# Altium schematic symbol library lattice-fpga.SchLib: 4 symbols
Pins are listed as number, name and electrical type; pins without a type are passive.

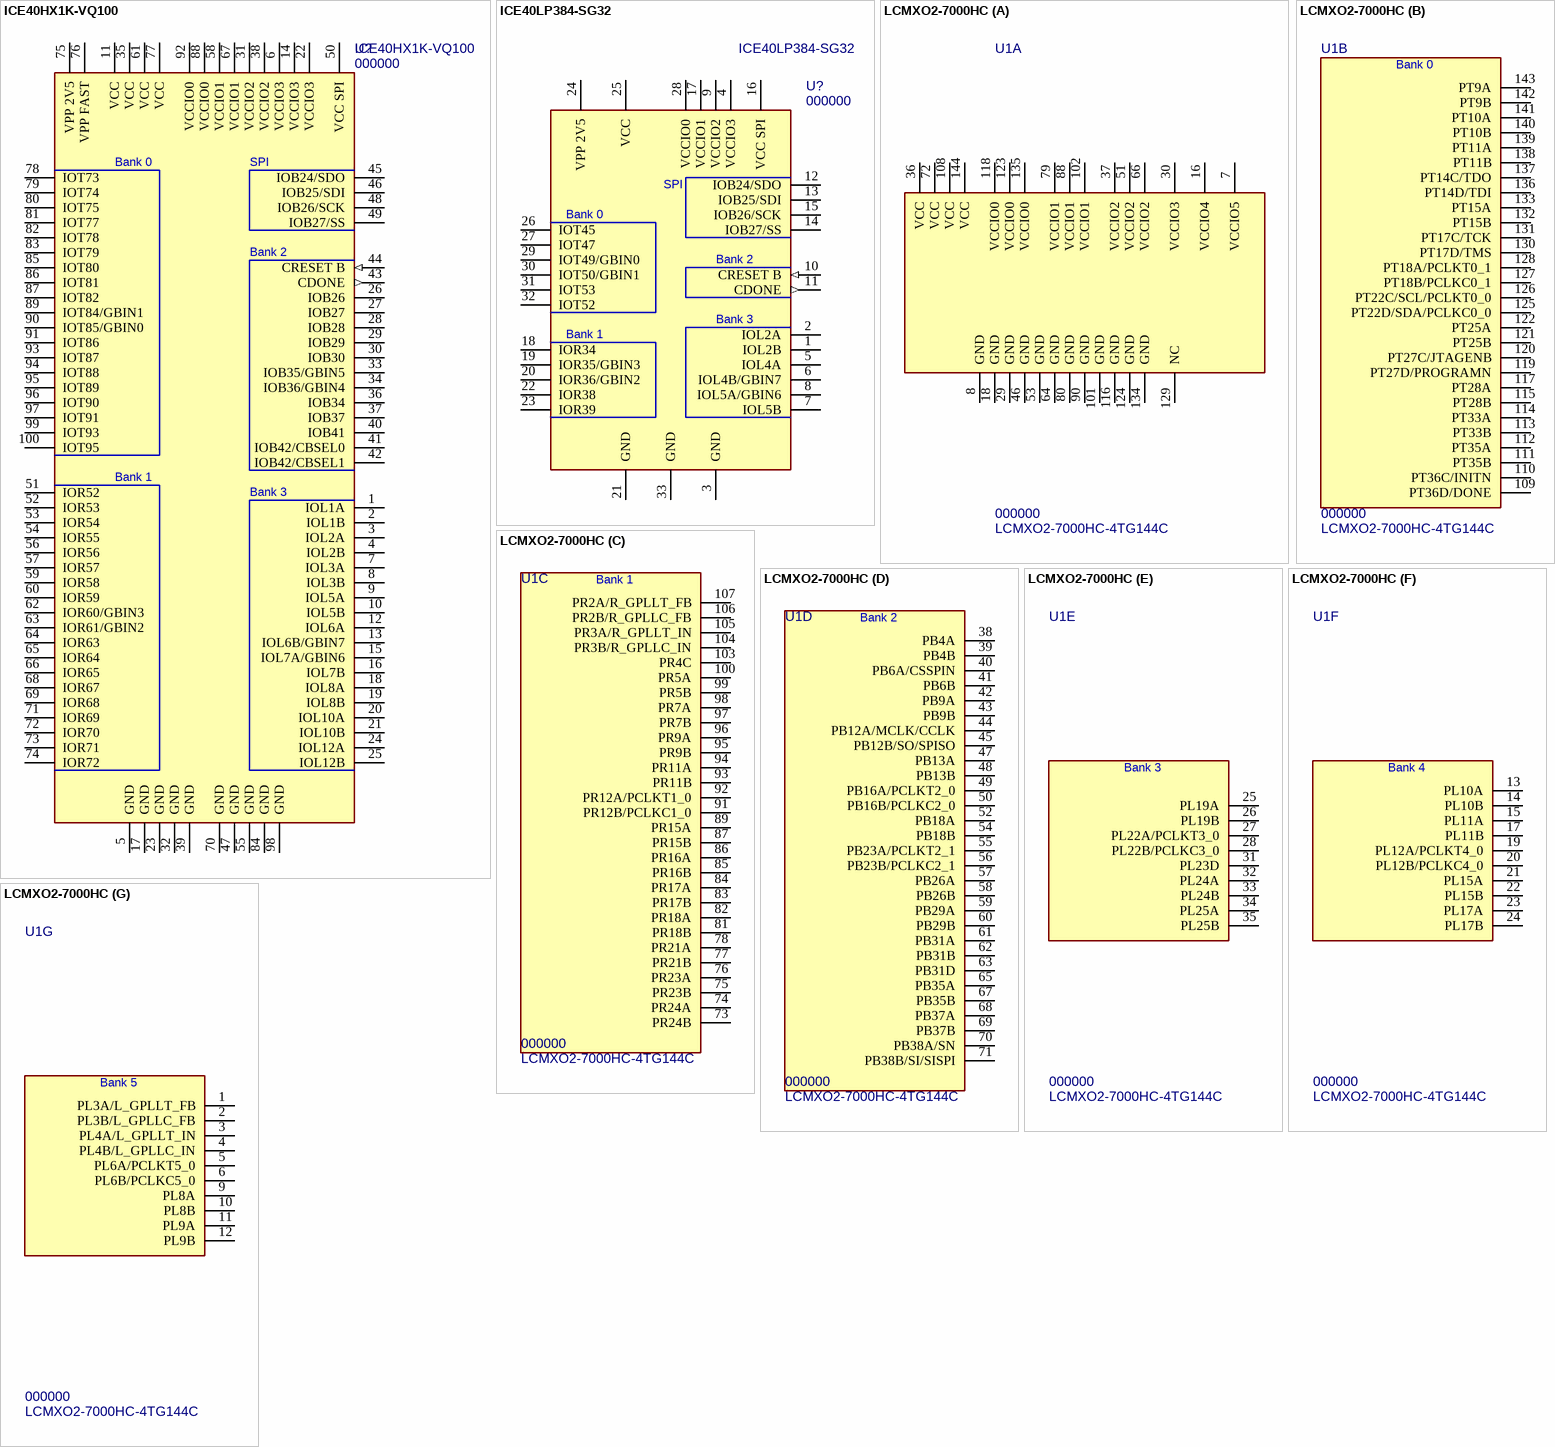
[diagram p0: symbols ICE40HX1K-VQ100 to LCMXO2-7000HC]

## ICE40HX1K-VQ100
designator U?, comment 000000  value ICE40HX1K-VQ100
FPGA, 1280 Logic Elements, OTP; MF: Lattice; Digy-Key PN: 220-1567-ND; PN: 000000; Package: 100-LQFP; ExtraInfo: *; MF PN: ICE40HX1K-VQ100
footprint 100-VQFP-M (TSQFP, 100-Leads, Body 16.2x16.2mm (max), Pitch 0.50mm, IPC High Density)
pins: 1 IOL1A, 2 IOL1B, 3 IOL2A, 4 IOL2B, 5 GND (power), 6 VCCIO3, 7 IOL3A, 8 IOL3B, 9 IOL5A, 10 IOL5B, 11 VCC (power), 12 IOL6A, 13 IOL6B/GBIN7, 14 VCCIO3, 15 IOL7A/GBIN6, 16 IOL7B, 17 GND, 18 IOL8A, 19 IOL8B, 20 IOL10A, 21 IOL10B, 22 VCCIO3, 23 GND, 24 IOL12A, 25 IOL12B, 26 IOB26, 27 IOB27, 28 IOB28, 29 IOB29, 30 IOB30, 31 VCCIO2 (power), 32 GND (power), 33 IOB35/GBIN5, 34 IOB36/GBIN4, 35 VCC (power), 36 IOB34, 37 IOB37, 38 VCCIO2 (power), 39 GND (power), 40 IOB41, 41 IOB42/CBSEL0, 42 IOB42/CBSEL1, 43 CDONE (out), 44 CRESET B (in), 45 IOB24/SDO, 46 IOB25/SDI, 47 GND (power), 48 IOB26/SCK, 49 IOB27/SS, 50 VCC SPI, 51 IOR52, 52 IOR53, 53 IOR54, 54 IOR55, 55 GND (power), 56 IOR56, 57 IOR57, 58 VCCIO1 (power), 59 IOR58, 60 IOR59, 61 VCC (power), 62 IOR60/GBIN3, 63 IOR61/GBIN2, 64 IOR63, 65 IOR64, 66 IOR65, 67 VCCIO1 (power), 68 IOR67, 69 IOR68, 70 GND, 71 IOR69, 72 IOR70, 73 IOR71, 74 IOR72, 75 VPP 2V5 (power), 76 VPP FAST (power), 77 VCC (power), 78 IOT73, 79 IOT74, 80 IOT75, 81 IOT77, 82 IOT78, 83 IOT79, 84 GND, 85 IOT80, 86 IOT81, 87 IOT82, 88 VCCIO0 (power), 89 IOT84/GBIN1, 90 IOT85/GBIN0, 91 IOT86, 92 VCCIO0 (power), 93 IOT87, 94 IOT88, 95 IOT89, 96 IOT90, 97 IOT91, 98 GND, 99 IOT93, 100 IOT95
text: Bank 0; SPI; Bank 2; Bank 1; Bank 3

## ICE40LP384-SG32
designator U?, comment 000000  value ICE40LP384-SG32
FPGA, 384 Logic Elements, OTP; PN: 000000; Package: 32-QFN; ExtraInfo: *
footprint 32-QFNS-M (QFN, 32-Leads, Body 5.0x5.0mm (max), Pitch 0.50mm, IPC Medium Density)
pins: 1 IOL2B, 2 IOL2A, 3 GND, 4 VCCIO3, 5 IOL4A, 6 IOL4B/GBIN7, 7 IOL5B, 8 IOL5A/GBIN6, 9 VCCIO2, 10 CRESET B (in), 11 CDONE (out), 12 IOB24/SDO, 13 IOB25/SDI, 14 IOB27/SS, 15 IOB26/SCK, 16 VCC SPI, 17 VCCIO1, 18 IOR34, 19 IOR35/GBIN3, 20 IOR36/GBIN2, 21 GND (power), 22 IOR38, 23 IOR39, 24 VPP 2V5, 25 VCC (power), 26 IOT45, 27 IOT47, 28 VCCIO0, 29 IOT49/GBIN0, 30 IOT50/GBIN1, 31 IOT53, 32 IOT52, 33 GND (power)
text: SPI; Bank 0; Bank 2; Bank 3; Bank 1

## LCMXO2-7000HC
designator U1, comment 000000  value LCMXO2-7000HC-4TG144C
FPGA, 6864 Logic Elements, Flash; MF: Lattice; Digy-Key PN: 220-1567-ND; PN: 000000; Package: 144-LQFP; ExtraInfo: *; MF PN: LCMXO2-7000HC-4TG144C
footprint 144-TQFP (TSQFP, 144-Leads, Body 20.00x20.00mm, Pitch 0.50mm, IPC Medium Density)
part A pins: 7 VCCIO5, 8 GND, 16 VCCIO4, 18 GND, 29 GND, 30 VCCIO3, 36 VCC, 37 VCCIO2, 46 GND, 51 VCCIO2, 53 GND, 64 GND, 66 VCCIO2, 72 VCC, 79 VCCIO1, 80 GND, 88 VCCIO1 (power), 90 GND, 101 GND, 102 VCCIO1, 108 VCC, 116 GND, 118 VCCIO0, 123 VCCIO0, 124 GND, 129 NC, 134 GND, 135 VCCIO0, 144 VCC
part B pins: 109 PT36D/DONE, 110 PT36C/INITN, 111 PT35B, 112 PT35A, 113 PT33B, 114 PT33A, 115 PT28B, 117 PT28A, 119 PT27D/PROGRAMN, 120 PT27C/JTAGENB, 121 PT25B, 122 PT25A, 125 PT22D/SDA/PCLKC0_0, 126 PT22C/SCL/PCLKT0_0, 127 PT18B/PCLKC0_1, 128 PT18A/PCLKT0_1, 130 PT17D/TMS, 131 PT17C/TCK, 132 PT15B, 133 PT15A, 136 PT14D/TDI, 137 PT14C/TDO, 138 PT11B, 139 PT11A, 140 PT10B, 141 PT10A, 142 PT9B, 143 PT9A
part C pins: 73 PR24B, 74 PR24A, 75 PR23B (power), 76 PR23A (power), 77 PR21B (power), 78 PR21A, 81 PR18B, 82 PR18A, 83 PR17B, 84 PR17A, 85 PR16B, 86 PR16A, 87 PR15B, 89 PR15A, 91 PR12B/PCLKC1_0, 92 PR12A/PCLKT1_0 (power), 93 PR11B, 94 PR11A, 95 PR9B, 96 PR9A, 97 PR7B, 98 PR7A, 99 PR5B, 100 PR5A, 103 PR4C, 104 PR3B/R_GPLLC_IN, 105 PR3A/R_GPLLT_IN, 106 PR2B/R_GPLLC_FB, 107 PR2A/R_GPLLT_FB
part D pins: 38 PB4A (power), 39 PB4B (power), 40 PB6A/CSSPIN, 41 PB6B, 42 PB9A, 43 PB9B, 44 PB12A/MCLK/CCLK, 45 PB12B/SO/SPISO, 47 PB13A (power), 48 PB13B, 49 PB16A/PCLKT2_0, 50 PB16B/PCLKC2_0, 52 PB18A, 54 PB18B, 55 PB23A/PCLKT2_1 (power), 56 PB23B/PCLKC2_1, 57 PB26A, 58 PB26B (power), 59 PB29A, 60 PB29B, 61 PB31A (power), 62 PB31B, 63 PB31D, 65 PB35A, 67 PB35B (power), 68 PB37A, 69 PB37B, 70 PB38A/SN, 71 PB38B/SI/SISPI
part E pins: 25 PL19A, 26 PL19B, 27 PL22A/PCLKT3_0, 28 PL22B/PCLKC3_0, 31 PL23D (power), 32 PL24A (power), 33 PL24B, 34 PL25A, 35 PL25B (power)
part F pins: 13 PL10A, 14 PL10B, 15 PL11A, 17 PL11B, 19 PL12A/PCLKT4_0, 20 PL12B/PCLKC4_0, 21 PL15A, 22 PL15B, 23 PL17A, 24 PL17B
part G pins: 1 PL3A/L_GPLLT_FB, 2 PL3B/L_GPLLC_FB, 3 PL4A/L_GPLLT_IN, 4 PL4B/L_GPLLC_IN, 5 PL6A/PCLKT5_0 (power), 6 PL6B/PCLKC5_0, 9 PL8A, 10 PL8B, 11 PL9A (power), 12 PL9B
part B text: Bank 0
part C text: Bank 1
part D text: Bank 2
part E text: Bank 3
part F text: Bank 4
part G text: Bank 5

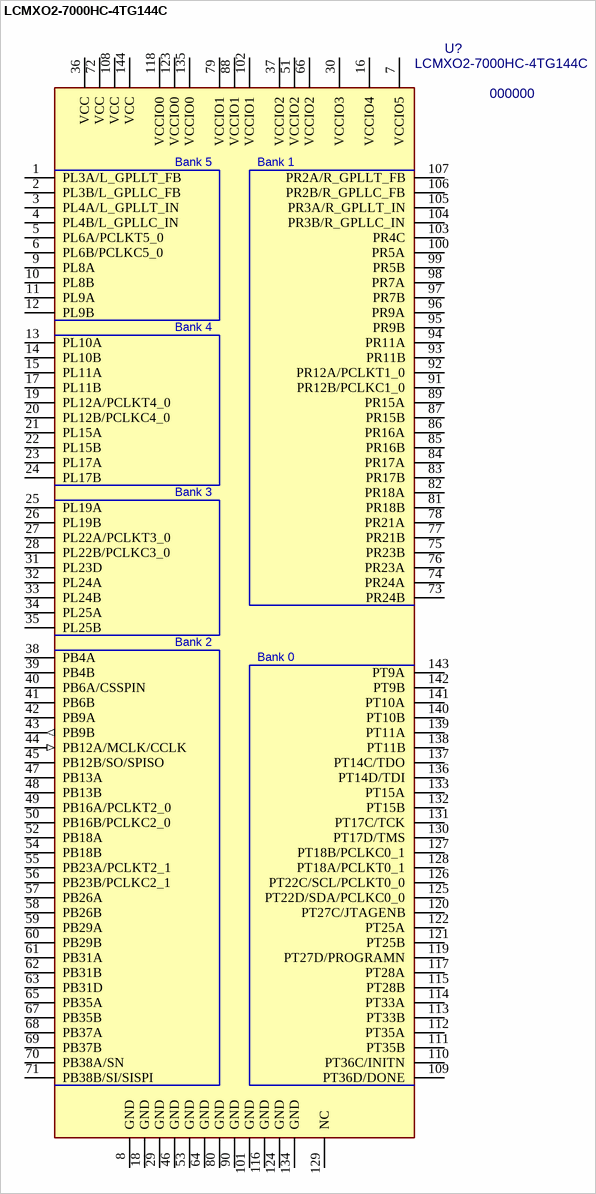
[diagram p1: symbol LCMXO2-7000HC-4TG144C]

## LCMXO2-7000HC-4TG144C
designator U?, comment 000000  value LCMXO2-7000HC-4TG144C
FPGA, 1280 Logic Elements, OTP; MF: Lattice; Digy-Key PN: 220-1567-ND; PN: 000000; Package: 144-LQFP; ExtraInfo: *; MF PN: LCMXO2-7000HC-4TG144C
footprint 144-TQFP (TSQFP, 144-Leads, Body 20.00x20.00mm, Pitch 0.50mm, IPC Medium Density)
pins: 1 PL3A/L_GPLLT_FB, 2 PL3B/L_GPLLC_FB, 3 PL4A/L_GPLLT_IN, 4 PL4B/L_GPLLC_IN, 5 PL6A/PCLKT5_0 (power), 6 PL6B/PCLKC5_0, 7 VCCIO5, 8 GND, 9 PL8A, 10 PL8B, 11 PL9A (power), 12 PL9B, 13 PL10A, 14 PL10B, 15 PL11A, 16 VCCIO4, 17 PL11B, 18 GND, 19 PL12A/PCLKT4_0, 20 PL12B/PCLKC4_0, 21 PL15A, 22 PL15B, 23 PL17A, 24 PL17B, 25 PL19A, 26 PL19B, 27 PL22A/PCLKT3_0, 28 PL22B/PCLKC3_0, 29 GND, 30 VCCIO3, 31 PL23D (power), 32 PL24A (power), 33 PL24B, 34 PL25A, 35 PL25B (power), 36 VCC, 37 VCCIO2, 38 PB4A (power), 39 PB4B (power), 40 PB6A/CSSPIN, 41 PB6B, 42 PB9A, 43 PB9B (out), 44 PB12A/MCLK/CCLK (in), 45 PB12B/SO/SPISO, 46 GND, 47 PB13A (power), 48 PB13B, 49 PB16A/PCLKT2_0, 50 PB16B/PCLKC2_0, 51 VCCIO2, 52 PB18A, 53 GND, 54 PB18B, 55 PB23A/PCLKT2_1 (power), 56 PB23B/PCLKC2_1, 57 PB26A, 58 PB26B (power), 59 PB29A, 60 PB29B, 61 PB31A (power), 62 PB31B, 63 PB31D, 64 GND, 65 PB35A, 66 VCCIO2, 67 PB35B (power), 68 PB37A, 69 PB37B, 70 PB38A/SN, 71 PB38B/SI/SISPI, 72 VCC, 73 PR24B, 74 PR24A, 75 PR23B (power), 76 PR23A (power), 77 PR21B (power), 78 PR21A, 79 VCCIO1, 80 GND, 81 PR18B, 82 PR18A, 83 PR17B, 84 PR17A, 85 PR16B, 86 PR16A, 87 PR15B, 88 VCCIO1 (power), 89 PR15A, 90 GND, 91 PR12B/PCLKC1_0, 92 PR12A/PCLKT1_0 (power), 93 PR11B, 94 PR11A, 95 PR9B, 96 PR9A, 97 PR7B, 98 PR7A, 99 PR5B, 100 PR5A, 101 GND, 102 VCCIO1, 103 PR4C, 104 PR3B/R_GPLLC_IN, 105 PR3A/R_GPLLT_IN, 106 PR2B/R_GPLLC_FB, 107 PR2A/R_GPLLT_FB, 108 VCC, 109 PT36D/DONE, 110 PT36C/INITN, 111 PT35B, 112 PT35A, 113 PT33B, 114 PT33A, 115 PT28B, 116 GND, 117 PT28A, 118 VCCIO0, 119 PT27D/PROGRAMN, 120 PT27C/JTAGENB, 121 PT25B, 122 PT25A, 123 VCCIO0, 124 GND, 125 PT22D/SDA/PCLKC0_0, 126 PT22C/SCL/PCLKT0_0, 127 PT18B/PCLKC0_1, 128 PT18A/PCLKT0_1, 129 NC, 130 PT17D/TMS, 131 PT17C/TCK, 132 PT15B, 133 PT15A, 134 GND, 135 VCCIO0, 136 PT14D/TDI, 137 PT14C/TDO, 138 PT11B, 139 PT11A, 140 PT10B, 141 PT10A, 142 PT9B, 143 PT9A, 144 VCC
text: Bank 5; Bank 1; Bank 4; Bank 3; Bank 2; Bank 0